# EAGLE library part HDMI-LABELED (library harrison)
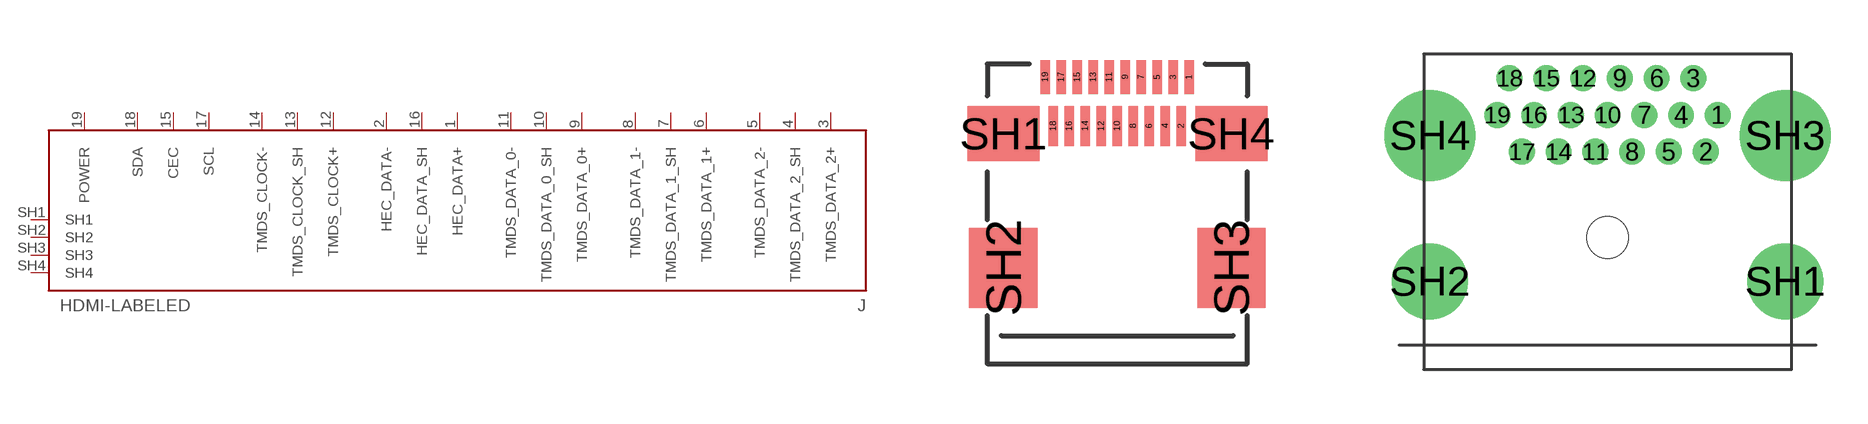
[diagram p71: symbol with the pads of HDMI_MICRO_SMD; footprints HDMI_MICRO_SMD, HDMI_THRUHOLE]

Designator prefix J

## HDMI-LABELED_D  [HDMI_MICRO_SMD]
1  HEC_DATA+
2  HEC_DATA-
3  TMDS_DATA_2+
4  TMDS_DATA_2_SH  pwr
5  TMDS_DATA_2-
6  TMDS_DATA_1+
7  TMDS_DATA_1_SH  pwr
8  TMDS_DATA_1-
9  TMDS_DATA_0+
10  TMDS_DATA_0_SH  pwr
11  TMDS_DATA_0-
12  TMDS_CLOCK+
13  TMDS_CLOCK_SH  pwr
14  TMDS_CLOCK-
15  CEC
16  HEC_DATA_SH  pwr
17  SCL
18  SDA
19  POWER  pwr
SH1  SH1  pwr
SH2  SH2  pwr
SH3  SH3  pwr
SH4  SH4  pwr

## HDMI-LABELED_A_THRUHOLE  [HDMI_THRUHOLE]
1  TMDS_DATA_2+
2  TMDS_DATA_2_SH  pwr
3  TMDS_DATA_2-
4  TMDS_DATA_1+
5  TMDS_DATA_1_SH  pwr
6  TMDS_DATA_1-
7  TMDS_DATA_0+
8  TMDS_DATA_0_SH  pwr
9  TMDS_DATA_0-
10  TMDS_CLOCK+
11  TMDS_CLOCK_SH  pwr
12  TMDS_CLOCK-
13  CEC
14  HEC_DATA-
15  SCL
16  SDA
17  HEC_DATA_SH  pwr
18  POWER  pwr
19  HEC_DATA+
SH1  SH1  pwr
SH2  SH2  pwr
SH3  SH3  pwr
SH4  SH4  pwr

## HDMI-LABELED_A  [HDMI_A_SMD]
Pads as for HDMI_THRUHOLE

## Footprint HDMI_MICRO_SMD (pad centres in mm)
smd 0.23 x 0.85: 1 1.8,3.475; 3 1.4,3.475; 5 1,3.475; 7 0.6,3.475; 9 0.2,3.475; 11 -0.2,3.475; 13 -0.6,3.475; 15 -1,3.475; 17 -1.4,3.475; 19 -1.8,3.475
smd 0.23 x 1: 2 1.6,2.25; 4 1.2,2.25; 6 0.8,2.25; 8 0.4,2.25; 10 0,2.25; 12 -0.4,2.25; 14 -0.8,2.25; 16 -1.2,2.25; 18 -1.6,2.25
smd 1.8 x 1.38: SH1 -2.85,2.06; SH4 2.85,2.06
smd 1.7 x 2: SH2 -2.85,-1.3; SH3 2.85,-1.3

## Footprint HDMI_THRUHOLE (pad centres in mm)
drill 0.55 pad 0.965: 1 4.5,5; 2 4,3.5; 3 3.5,6.5; 4 3,5; 5 2.5,3.5; 6 2,6.5; 7 1.5,5; 8 1,3.5; 9 0.5,6.5; 10 0,5; 11 -0.5,3.5; 12 -1,6.5; 13 -1.5,5; 14 -2,3.5; 15 -2.5,6.5; 16 -3,5; 17 -3.5,3.5; 18 -4,6.5; 19 -4.5,5
drill 2.1: SH1 7.25,-1.8; SH2 -7.25,-1.8
drill 2.7: SH3 7.25,4.16; SH4 -7.25,4.16
hole 1.7 at 0,0

## Footprint HDMI_A_SMD (pad centres in mm)
smd 0.3 x 1.9: 1 4.75,5; 2 4.25,5; 3 3.75,5; 4 3.25,5; 5 2.75,5; 6 2.25,5; 7 1.75,5; 8 1.25,5; 9 0.75,5; 10 0.25,5; 11 -0.25,5; 12 -0.75,5; 13 -1.25,5; 14 -1.75,5; 15 -2.25,5; 16 -2.75,5; 17 -3.25,5; 18 -3.75,5; 19 -4.25,5
drill 1.3: SH1 7.85,-0.9; SH2 -7.85,-0.9; SH3 7.25,4; SH4 -7.25,4